# Altium footprint library 182-009-213Ryy1.PcbLib: 1 footprints
Each footprint in its own frame and in the unit in brackets; x right, y up, seen from the top. Pads: shape width x height; smd on the part's side, far side on the other; paste and mask are expansions set on the pad; w line width, h text height; cw(c..) or ccw(c..) is an arc to the next point about the centre after c.
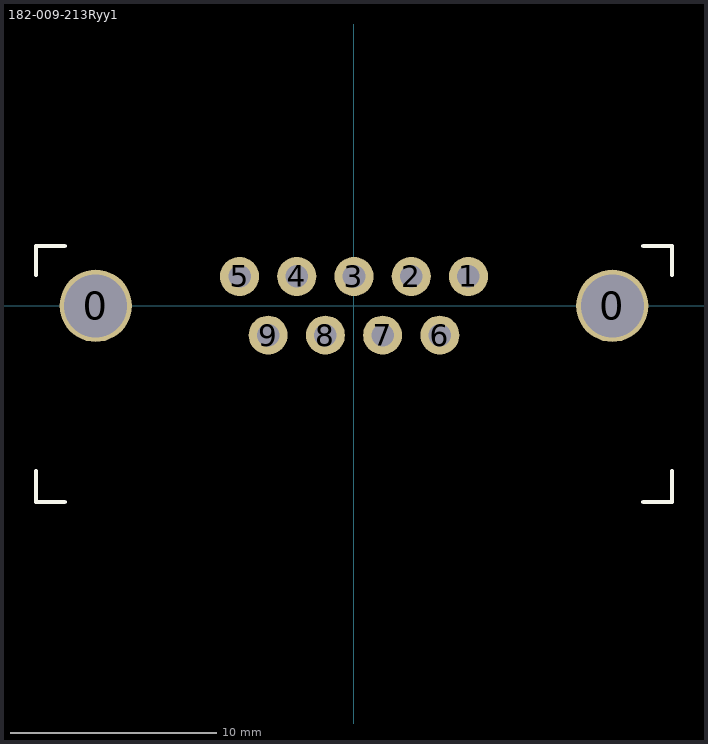
[diagram p0: the footprint, top view; thin cyan lines are the x and y axes]

## 182-009-213Ryy1 [mm] "NorComp 9-pin D-Sub connector"
pads (11):
  round 3.5 hole 3.05: 0(-12.5,0) 0(12.5,0)
  round 1.89 hole 1.09: 1(5.54,1.42) 2(2.77,1.42) 3(0,1.42) 4(-2.77,1.42) 5(-5.54,1.42) 6(4.155,-1.42) 7(1.385,-1.42) 8(-1.385,-1.42) 9(-4.155,-1.42)
Top Overlay:
  lines w0.2: -15.4,-8 -15.4,-9.5 -14,-9.5 ; -15.4,1.5 -15.4,2.9 -14,2.9 ; 14,-9.5 15.4,-9.5 15.4,-8 ; 14,2.9 15.4,2.9 15.4,1.5
3D body "182-009-213.STEP": height 12.55, standoff -3.17, extent -15.405,-15.617 15.405,2.9